# Altium footprint library PCB-mecha.PcbLib: 7 footprints
Each footprint in its own frame and in the unit in brackets; x right, y up, seen from the top. Pads: shape width x height; smd on the part's side, far side on the other; paste and mask are expansions set on the pad; w line width, h text height; cw(c..) or ccw(c..) is an arc to the next point about the centre after c.
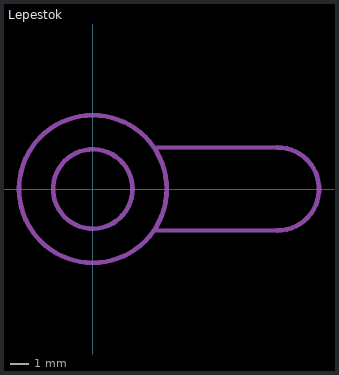
[diagram p0: the footprints below, top view; thin cyan lines are the x and y axes]

## Ekran [mm]
3D body "Ekran-XSection.step": height 0, standoff -5, extent -5,-5 110,95

## Lepestok [mm]
Mechanical 1:
  circle w0.254: c0,0 r2.15
  circle w0.254: c0,0 r4
  lines w0.2: 3.31,-2.25 10,-2.25 ; 3.5,2.25 10,2.25
  lines w0.254: 10,-2.25 ccw(c10,0) 10,2.25
3D body "Lepestok 1-2-4,3x20.step": height 7.51, standoff 0, extent -3.988,-3.995 13.287,3.995

## M4-10SCREW [mm]
3D body "cross_recessed_phillips_pan_head_M4x06.step": height 3.1, standoff -6, extent -4,-4 4,4

## SCREW-M2.5 [mm]
3D body "M2.5 x 3 Screw head.STEP": height -0.03, standoff -5.1, extent -2.5,-2.5 2.5,2.5

## STOYKA [mm]
3D body "Стойка изм 26 м2,5.STEP": height 26, standoff 0, extent -2.5,-2.887 2.5,2.887

## WASHER M4 [mm]
3D body "M4 screw size FLAT WASHER.STEP": height 0.9, standoff 0, extent -4.5,-4.5 4.5,4.5

## WASHER-M2.5 [mm]
3D body "M2.5 washer.stp": height 0.5, standoff 0, extent -3.2,-3.2 3.2,3.2